# Altium footprint library res_25mm.PcbLib: 1 footprints
Each footprint in its own frame and in the unit in brackets; x right, y up, seen from the top. Pads: shape width x height; smd on the part's side, far side on the other; paste and mask are expansions set on the pad; w line width, h text height; cw(c..) or ccw(c..) is an arc to the next point about the centre after c.
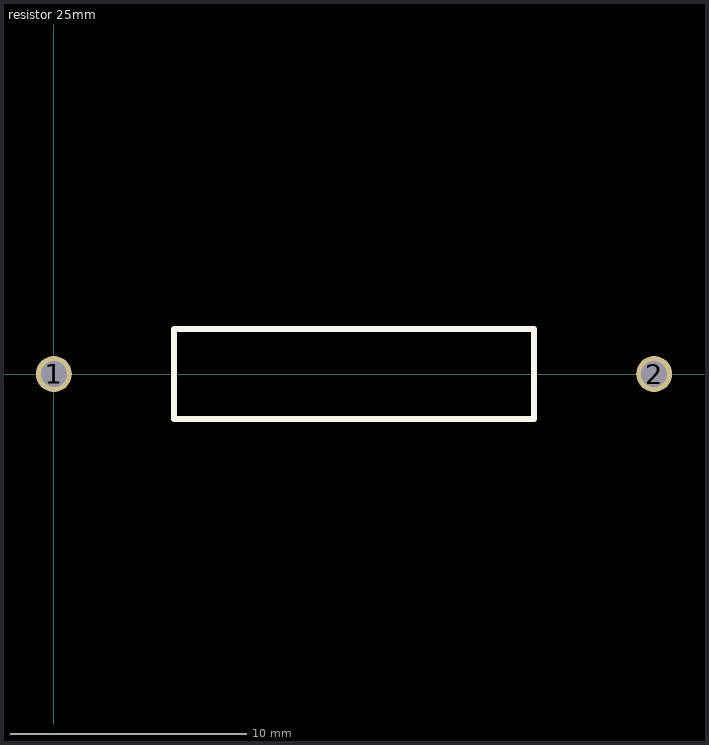
[diagram p0: the footprint, top view; thin cyan lines are the x and y axes]

## resistor 25mm [mil]
pads (2):
  round 60 hole 43.31: 1(0,0) 2(1000,0)
Top Overlay:
  lines w10: 200,-75 200,75 800,75 800,-75 200,-75